# EAGLE library part TCA9548ARGERQ1 (library TCA9548)
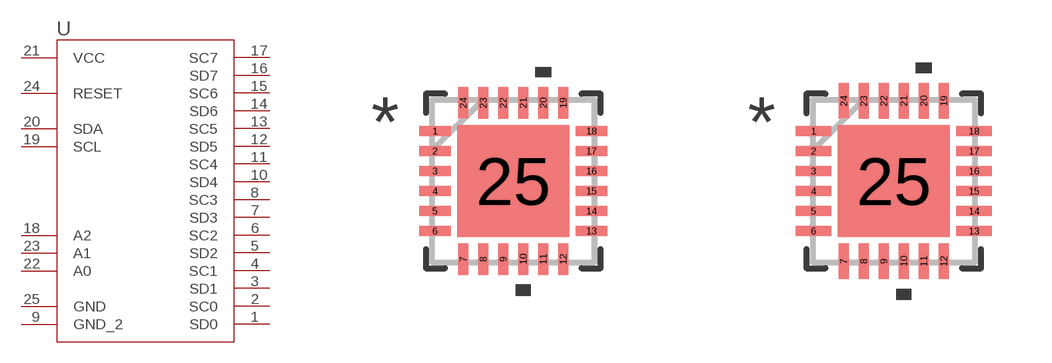
[diagram p0: symbol with the pads of QFN_GERQ1_TEX; footprints QFN_GERQ1_TEX, QFN_GERQ1_TEX-M]

Designator prefix U

## TCA9548ARGERQ1 (COPYRIGHT: Copyright (C) 2024 Ultra Librarian. All rights reserved.; MANUFACTURER_PART_NUMBER: TCA9548ARGERQ1; MFR_NAME: Texas Instruments)  [QFN_GERQ1_TEX]
1  SD0
2  SC0
3  SD1
4  SC1
5  SD2
6  SC2
7  SD3
8  SC3
9  GND_2  pas
10  SD4
11  SC4
12  SD5
13  SC5
14  SD6
15  SC6
16  SD7
17  SC7
18  A2
19  SCL  pas
20  SDA  pas
21  VCC  pwr
22  A0
23  A1
24  RESET  pas
25  GND  pas

## TCA9548ARGERQ1QFN_GERQ1_TEX-M (COPYRIGHT: Copyright (C) 2024 Ultra Librarian. All rights reserved.; MANUFACTURER_PART_NUMBER: TCA9548ARGERQ1; MFR_NAME: Texas Instruments)  [QFN_GERQ1_TEX-M]
Pads as for QFN_GERQ1_TEX

## TCA9548ARGERQ1QFN_GERQ1_TEX-L (COPYRIGHT: Copyright (C) 2024 Ultra Librarian. All rights reserved.; MANUFACTURER_PART_NUMBER: TCA9548ARGERQ1; MFR_NAME: Texas Instruments)  [QFN_GERQ1_TEX-L]
Pads as for QFN_GERQ1_TEX

## Footprint QFN_GERQ1_TEX (pad centres in mm)
smd 0.787 x 0.254: 1 -1.956,1.25; 2 -1.956,0.75; 3 -1.956,0.25; 4 -1.956,-0.25; 5 -1.956,-0.75; 6 -1.956,-1.25; 13 1.956,-1.25; 14 1.956,-0.75; 15 1.956,-0.25; 16 1.956,0.25; 17 1.956,0.75; 18 1.956,1.25
smd 0.254 x 0.787: 7 -1.25,-1.956; 8 -0.75,-1.956; 9 -0.25,-1.956; 10 0.25,-1.956; 11 0.75,-1.956; 12 1.25,-1.956; 19 1.25,1.956; 20 0.75,1.956; 21 0.25,1.956; 22 -0.25,1.956; 23 -0.75,1.956; 24 -1.25,1.956
smd 2.794 x 2.794: 25 0,0

## Footprint QFN_GERQ1_TEX-M (pad centres in mm)
smd 0.889 x 0.254: 1 -2.007,1.25; 2 -2.007,0.75; 3 -2.007,0.25; 4 -2.007,-0.25; 5 -2.007,-0.75; 6 -2.007,-1.25; 13 2.007,-1.25; 14 2.007,-0.75; 15 2.007,-0.25; 16 2.007,0.25; 17 2.007,0.75; 18 2.007,1.25
smd 0.254 x 0.889: 7 -1.25,-2.007; 8 -0.75,-2.007; 9 -0.25,-2.007; 10 0.25,-2.007; 11 0.75,-2.007; 12 1.25,-2.007; 19 1.25,2.007; 20 0.75,2.007; 21 0.25,2.007; 22 -0.25,2.007; 23 -0.75,2.007; 24 -1.25,2.007
smd 2.794 x 2.794: 25 0,0

## Footprint QFN_GERQ1_TEX-L (pad centres in mm)
smd 0.686 x 0.254: 1 -1.905,1.25; 2 -1.905,0.75; 3 -1.905,0.25; 4 -1.905,-0.25; 5 -1.905,-0.75; 6 -1.905,-1.25; 13 1.905,-1.25; 14 1.905,-0.75; 15 1.905,-0.25; 16 1.905,0.25; 17 1.905,0.75; 18 1.905,1.25
smd 0.254 x 0.686: 7 -1.25,-1.905; 8 -0.75,-1.905; 9 -0.25,-1.905; 10 0.25,-1.905; 11 0.75,-1.905; 12 1.25,-1.905; 19 1.25,1.905; 20 0.75,1.905; 21 0.25,1.905; 22 -0.25,1.905; 23 -0.75,1.905; 24 -1.25,1.905
smd 2.794 x 2.794: 25 0,0